# EAGLE library part FAN7190M (library fairchild-semi)
IC GATE DVR HI/LOW SIDE
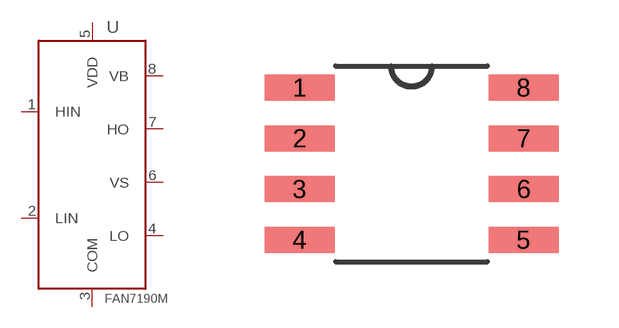
[diagram p4: symbol with the pads of SOIC8; footprint SOIC8]

Designator prefix U

## FAN7190M (DIGIKEY: FAN7190M_F085-ND; MFR: Fairchild Semiconductor; MPN: FAN7190M_F085; P1I: o)  [SOIC8]
1  HIN
2  LIN
3  COM
4  LO
5  VDD
6  VS
7  HO
8  VB

## Footprint SOIC8 (pad centres in mm)
smd 1.75 x 0.65: 1 -2.8,1.905; 2 -2.8,0.635; 3 -2.8,-0.635; 4 -2.8,-1.905; 5 2.8,-1.905; 6 2.8,-0.635; 7 2.8,0.635; 8 2.8,1.905